# Altium footprint library STM32H723VET6.PcbLib: 3 footprints
Each footprint in its own frame and in the unit in brackets; x right, y up, seen from the top. Pads: shape width x height; smd on the part's side, far side on the other; paste and mask are expansions set on the pad; w line width, h text height; cw(c..) or ccw(c..) is an arc to the next point about the centre after c.
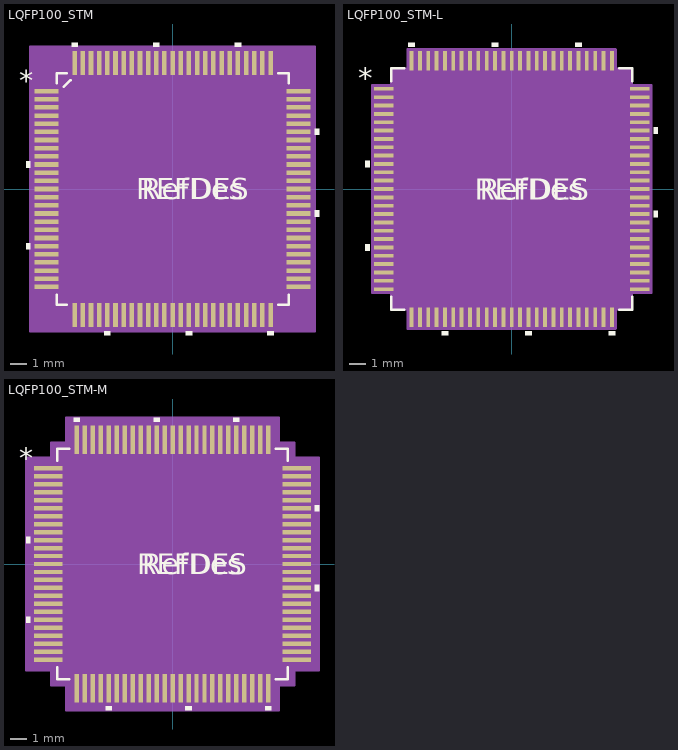
[diagram p0: the footprints below, top view; thin cyan lines are the x and y axes]

## LQFP100_STM [mil]
pads (100):
  rect 58x11 smd paste-29 mask+5: 1(-304,236.22) 2(-304,216.54) 3(-304,196.85) 4(-304,177.17) 5(-304,157.48) 6(-304,137.8) 7(-304,118.11) 8(-304,98.43) 9(-304,78.74) 10(-304,59.06) 11(-304,39.37) 12(-304,19.69) 13(-304,0) 14(-304,-19.68) 15(-304,-39.37) 16(-304,-59.06) 17(-304,-78.74) 18(-304,-98.43) 19(-304,-118.11) 20(-304,-137.8) 21(-304,-157.48) 22(-304,-177.17) 23(-304,-196.85) 24(-304,-216.54) 25(-304,-236.22) 51(304,-236.22) 52(304,-216.54) 53(304,-196.85) 54(304,-177.17) 55(304,-157.48) 56(304,-137.8) 57(304,-118.11) 58(304,-98.43) 59(304,-78.74) 60(304,-59.06) 61(304,-39.37) 62(304,-19.68) 63(304,0) 64(304,19.68) 65(304,39.37) 66(304,59.06) 67(304,78.74) 68(304,98.43) 69(304,118.11) 70(304,137.8) 71(304,157.48) 72(304,177.17) 73(304,196.85) 74(304,216.54) 75(304,236.22)
  rect 11x58 smd paste-29 mask+5: 26(-236.22,-304) 27(-216.54,-304) 28(-196.85,-304) 29(-177.17,-304) 30(-157.48,-304) 31(-137.8,-304) 32(-118.11,-304) 33(-98.43,-304) 34(-78.74,-304) 35(-59.06,-304) 36(-39.37,-304) 37(-19.68,-304) 38(0,-304) 39(19.68,-304) 40(39.37,-304) 41(59.06,-304) 42(78.74,-304) 43(98.43,-304) 44(118.11,-304) 45(137.8,-304) 46(157.48,-304) 47(177.17,-304) 48(196.85,-304) 49(216.54,-304) 50(236.22,-304) 76(236.22,304) 77(216.54,304) 78(196.85,304) 79(177.17,304) 80(157.48,304) 81(137.8,304) 82(118.11,304) 83(98.43,304) 84(78.74,304) 85(59.06,304) 86(39.37,304) 87(19.68,304) 88(0,304) 89(-19.68,304) 90(-39.37,304) 91(-59.06,304) 92(-78.74,304) 93(-98.43,304) 94(-118.11,304) 95(-137.8,304) 96(-157.48,304) 97(-177.17,304) 98(-196.85,304) 99(-216.54,304) 100(-236.22,304)
Top Overlay:
  region: -343,66.56 -353,66.56 -353,51.56 -343,51.56
  region: -343,-130.3 -353,-130.3 -353,-145.3 -343,-145.3
  region: -149.98,-343 -164.98,-343 -164.98,-353 -149.98,-353
  region: 46.87,-343 31.87,-343 31.87,-353 46.87,-353
  region: 243.72,-343 228.72,-343 228.72,-353 243.72,-353
  region: 343,-51.56 353,-51.56 353,-66.56 343,-66.56
  region: 343,145.3 353,145.3 353,130.3 343,130.3
  region: 164.98,343 149.98,343 149.98,353 164.98,353
  region: -31.87,343 -46.87,343 -46.87,353 -31.87,353
  region: -228.72,343 -243.72,343 -243.72,353 -228.72,353
  lines w6: -279.5,-254.82 -279.5,-279.5 -254.82,-279.5 ; -279.5,254.82 -279.5,279.5 -254.82,279.5 ; -262.72,246.28 -246.28,262.72 ; 254.82,-279.5 279.5,-279.5 279.5,-254.82 ; 254.82,279.5 279.5,279.5 279.5,254.82
  text "*" at -370.5,236.06 h50
  text "RefDes" at -75,-25 h50
  text "REFDES" at -87.5,-25 h50
Mechanical 13:
  drawing of 409 lines, arcs and shapes, not listed
  text "*" at -370.5,236.06 h50
  text "RefDes2" at -87.5,-25 h50
Mechanical 15:
  region: 343,-343 -343,-343 -343,343 343,343
  lines w6: -343,-343 -343,343 343,343 343,-343 -343,-343
3D body "LQFP100_STM.step": height 63.11, standoff 0, extent -319.02,-319.02 319.02,319.02

## LQFP100_STM-L [mil]
pads (100):
  rect 46x9 smd paste+0 mask+0: 1(-302,236.22) 2(-302,216.54) 3(-302,196.85) 4(-302,177.17) 5(-302,157.48) 6(-302,137.8) 7(-302,118.11) 8(-302,98.43) 9(-302,78.74) 10(-302,59.06) 11(-302,39.37) 12(-302,19.69) 13(-302,0) 14(-302,-19.68) 15(-302,-39.37) 16(-302,-59.06) 17(-302,-78.74) 18(-302,-98.43) 19(-302,-118.11) 20(-302,-137.8) 21(-302,-157.48) 22(-302,-177.17) 23(-302,-196.85) 24(-302,-216.54) 25(-302,-236.22) 51(302,-236.22) 52(302,-216.54) 53(302,-196.85) 54(302,-177.17) 55(302,-157.48) 56(302,-137.8) 57(302,-118.11) 58(302,-98.43) 59(302,-78.74) 60(302,-59.06) 61(302,-39.37) 62(302,-19.68) 63(302,0) 64(302,19.68) 65(302,39.37) 66(302,59.06) 67(302,78.74) 68(302,98.43) 69(302,118.11) 70(302,137.8) 71(302,157.48) 72(302,177.17) 73(302,196.85) 74(302,216.54) 75(302,236.22)
  rect 9x46 smd paste+0 mask+0: 26(-236.22,-302) 27(-216.54,-302) 28(-196.85,-302) 29(-177.17,-302) 30(-157.48,-302) 31(-137.8,-302) 32(-118.11,-302) 33(-98.43,-302) 34(-78.74,-302) 35(-59.06,-302) 36(-39.37,-302) 37(-19.68,-302) 38(0,-302) 39(19.68,-302) 40(39.37,-302) 41(59.06,-302) 42(78.74,-302) 43(98.43,-302) 44(118.11,-302) 45(137.8,-302) 46(157.48,-302) 47(177.17,-302) 48(196.85,-302) 49(216.54,-302) 50(236.22,-302) 76(236.22,302) 77(216.54,302) 78(196.85,302) 79(177.17,302) 80(157.48,302) 81(137.8,302) 82(118.11,302) 83(98.43,302) 84(78.74,302) 85(59.06,302) 86(39.37,302) 87(19.68,302) 88(0,302) 89(-19.68,302) 90(-39.37,302) 91(-59.06,302) 92(-78.74,302) 93(-98.43,302) 94(-118.11,302) 95(-137.8,302) 96(-157.48,302) 97(-177.17,302) 98(-196.85,302) 99(-216.54,302) 100(-236.22,302)
Top Overlay:
  region: -335,66.56 -345,66.56 -345,51.56 -335,51.56
  region: -335,-130.3 -345,-130.3 -345,-145.3 -335,-145.3
  region: -149.98,-335 -164.98,-335 -164.98,-345 -149.98,-345
  region: 46.87,-335 31.87,-335 31.87,-345 46.87,-345
  region: 243.72,-335 228.72,-335 228.72,-345 243.72,-345
  region: 335,-51.56 345,-51.56 345,-66.56 335,-66.56
  region: 335,145.3 345,145.3 345,130.3 335,130.3
  region: 164.98,335 149.98,335 149.98,345 164.98,345
  region: -31.87,335 -46.87,335 -46.87,345 -31.87,345
  region: -228.72,335 -243.72,335 -243.72,345 -228.72,345
  lines w6: -284.5,-253.82 -284.5,-284.5 -253.82,-284.5 ; -284.5,253.82 -284.5,284.5 -253.82,284.5 ; 253.82,-284.5 284.5,-284.5 284.5,-253.82 ; 253.82,284.5 284.5,284.5 284.5,253.82
  text "*" at -362.5,236.06 h50
  text "RefDes" at -75,-25 h50
  text "REFDES" at -87.5,-25 h50
Mechanical 13:
  drawing of 405 lines, arcs and shapes, not listed
  text "*" at -277,221.06 h50
  text "RefDes2" at -87.5,-25 h50
Mechanical 15:
  region: -244.72,-283.5 -283.5,-283.5 -283.5,-244.72 -329,-244.72 -329,244.72 -283.5,244.72 -283.5,283.5 -244.72,283.5 -244.72,329 244.72,329 244.72,283.5 283.5,283.5 283.5,244.72 329,244.72 329,-244.72 283.5,-244.72 283.5,-283.5 244.72,-283.5 244.72,-329 -244.72,-329
  lines w6: -329,-244.72 -283.5,-244.72 -283.5,-283.5 -244.72,-283.5 -244.72,-329 244.72,-329 244.72,-283.5 283.5,-283.5 283.5,-244.72 329,-244.72 329,244.72 283.5,244.72 283.5,283.5 244.72,283.5 244.72,329 -244.72,329 -244.72,283.5 -283.5,283.5 -283.5,244.72 -329,244.72 -329,-244.72
3D body "LQFP100_STM.step": height 63.11, standoff 0, extent -319.02,-319.02 319.02,319.02

## LQFP100_STM-M [mil]
pads (100):
  rect 70x11 smd paste+0 mask+0: 1(-306,236.22) 2(-306,216.54) 3(-306,196.85) 4(-306,177.17) 5(-306,157.48) 6(-306,137.8) 7(-306,118.11) 8(-306,98.43) 9(-306,78.74) 10(-306,59.06) 11(-306,39.37) 12(-306,19.69) 13(-306,0) 14(-306,-19.68) 15(-306,-39.37) 16(-306,-59.06) 17(-306,-78.74) 18(-306,-98.43) 19(-306,-118.11) 20(-306,-137.8) 21(-306,-157.48) 22(-306,-177.17) 23(-306,-196.85) 24(-306,-216.54) 25(-306,-236.22) 51(306,-236.22) 52(306,-216.54) 53(306,-196.85) 54(306,-177.17) 55(306,-157.48) 56(306,-137.8) 57(306,-118.11) 58(306,-98.43) 59(306,-78.74) 60(306,-59.06) 61(306,-39.37) 62(306,-19.68) 63(306,0) 64(306,19.68) 65(306,39.37) 66(306,59.06) 67(306,78.74) 68(306,98.43) 69(306,118.11) 70(306,137.8) 71(306,157.48) 72(306,177.17) 73(306,196.85) 74(306,216.54) 75(306,236.22)
  rect 11x70 smd paste+0 mask+0: 26(-236.22,-306) 27(-216.54,-306) 28(-196.85,-306) 29(-177.17,-306) 30(-157.48,-306) 31(-137.8,-306) 32(-118.11,-306) 33(-98.43,-306) 34(-78.74,-306) 35(-59.06,-306) 36(-39.37,-306) 37(-19.68,-306) 38(0,-306) 39(19.68,-306) 40(39.37,-306) 41(59.06,-306) 42(78.74,-306) 43(98.43,-306) 44(118.11,-306) 45(137.8,-306) 46(157.48,-306) 47(177.17,-306) 48(196.85,-306) 49(216.54,-306) 50(236.22,-306) 76(236.22,306) 77(216.54,306) 78(196.85,306) 79(177.17,306) 80(157.48,306) 81(137.8,306) 82(118.11,306) 83(98.43,306) 84(78.74,306) 85(59.06,306) 86(39.37,306) 87(19.68,306) 88(0,306) 89(-19.68,306) 90(-39.37,306) 91(-59.06,306) 92(-78.74,306) 93(-98.43,306) 94(-118.11,306) 95(-137.8,306) 96(-157.48,306) 97(-177.17,306) 98(-196.85,306) 99(-216.54,306) 100(-236.22,306)
Top Overlay:
  region: -351,66.56 -361,66.56 -361,51.56 -351,51.56
  region: -351,-130.3 -361,-130.3 -361,-145.3 -351,-145.3
  region: -149.98,-351 -164.98,-351 -164.98,-361 -149.98,-361
  region: 46.87,-351 31.87,-351 31.87,-361 46.87,-361
  region: 243.72,-351 228.72,-351 228.72,-361 243.72,-361
  region: 351,-51.56 361,-51.56 361,-66.56 351,-66.56
  region: 351,145.3 361,145.3 361,130.3 351,130.3
  region: 164.98,351 149.98,351 149.98,361 164.98,361
  region: -31.87,351 -46.87,351 -46.87,361 -31.87,361
  region: -228.72,351 -243.72,351 -243.72,361 -228.72,361
  lines w6: -284.5,-254.82 -284.5,-284.5 -254.82,-284.5 ; -284.5,254.82 -284.5,284.5 -254.82,284.5 ; 254.82,-284.5 284.5,-284.5 284.5,-254.82 ; 254.82,284.5 284.5,284.5 284.5,254.82
  text "*" at -378.5,236.06 h50
  text "RefDes" at -75,-25 h50
  text "REFDES" at -87.5,-25 h50
Mechanical 13:
  drawing of 405 lines, arcs and shapes, not listed
  text "*" at -277,221.06 h50
  text "RefDes2" at -87.5,-25 h50
Mechanical 15:
  region: -261.72,-299.5 -299.5,-299.5 -299.5,-261.72 -361,-261.72 -361,261.72 -299.5,261.72 -299.5,299.5 -261.72,299.5 -261.72,361 261.72,361 261.72,299.5 299.5,299.5 299.5,261.72 361,261.72 361,-261.72 299.5,-261.72 299.5,-299.5 261.72,-299.5 261.72,-361 -261.72,-361
  lines w6: -361,-261.72 -299.5,-261.72 -299.5,-299.5 -261.72,-299.5 -261.72,-361 261.72,-361 261.72,-299.5 299.5,-299.5 299.5,-261.72 361,-261.72 361,261.72 299.5,261.72 299.5,299.5 261.72,299.5 261.72,361 -261.72,361 -261.72,299.5 -299.5,299.5 -299.5,261.72 -361,261.72 -361,-261.72
3D body "LQFP100_STM.step": height 63.11, standoff 0, extent -319.02,-319.02 319.02,319.02